# Altium integrated library Capacitors - Ceramic - 0201.IntLib: 1723 symbols (part 3 of 38)
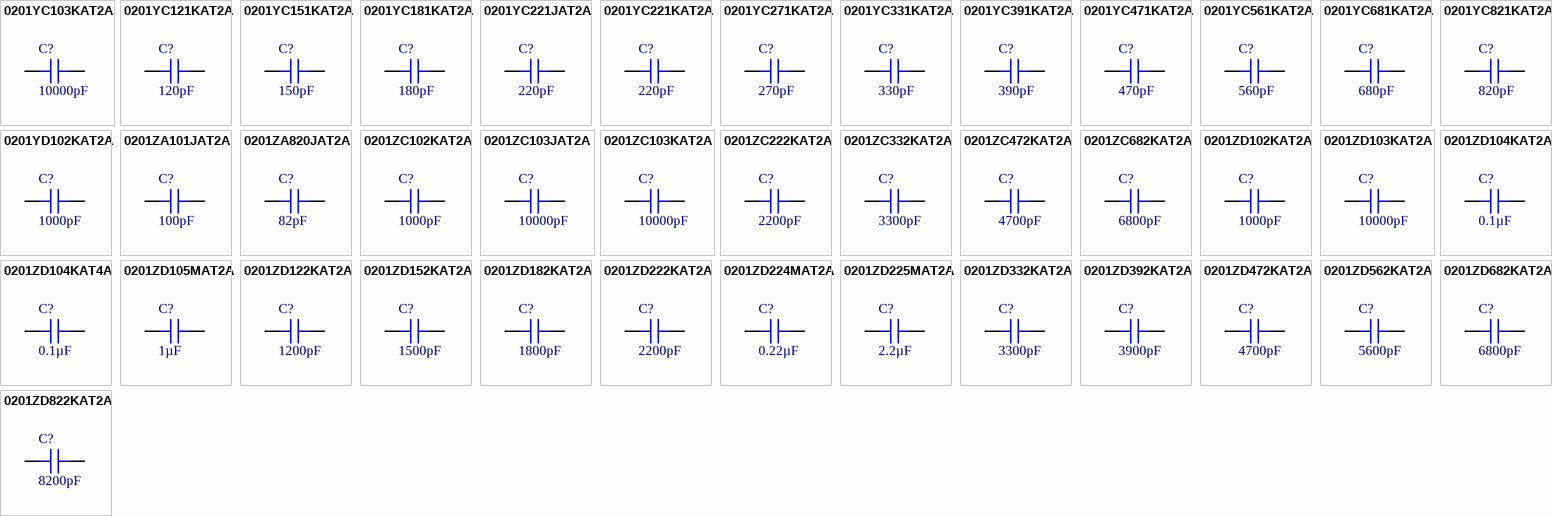
[diagram p45: symbols 0201YC103KAT2A to 0201ZD822KAT2A]

## 0201YD102KAT2A
designator C?, comment 1000pF
CAP CER 1000PF 16V X5R 0201; Part Number: 0201YD102KAT2A; Manufacturer: AVX Corporation; Tolerance: ±10%; Value: 1000pF; Applications: General Purpose; Capacitance: 1000pF; ComponentLink1Description: Datasheet; ComponentLink1URL: http://datasheets.avx.com/cx5r.pdf; ComponentLink2Description: DigiKey Link; ComponentLink2URL: http://digikey.com/product-detail/en/avx-corporation/0201YD102KAT2A/478-12599-1-ND/9949139; Device Package: 0201 (0603 Metric); LastUpdated: 9/2/2020 12:59:42 AM; Lifecycle Status: Active; Minimum Order: 1; Mounting Type: Surface Mount, MLCC; Operating Temperature: -55°C ~ 85°C; Package / Case: 0201 (0603 Metric); Packaging: TapeAndReel; PartId: 439; Part Status: Active; Price: 0.09; Series: -; Size / Dimension: 0.024" L x 0.012" W (0.60mm x 0.30mm); Supplier 1: DigiKey; Supplier Part Number 1: 478-12599-1-ND; Temperature Coefficient: X5R; Thickness (Max): 0.013" (0.33mm); Voltage - Rated: 16V
footprint CAP 0201_0603
pins: 1, 2

## 0201ZA101JAT2A
designator C?, comment 100pF
CAP CER 100PF 10V C0G/NP0 0201; Part Number: 0201ZA101JAT2A; Manufacturer: AVX Corporation; Temperature Coefficient: C0G, NP0; Tolerance: ±5%; Value: 100pF; Applications: General Purpose; Capacitance: 100pF; ComponentLink1Description: Datasheet; ComponentLink1URL: http://datasheets.avx.com/C0GNP0-Dielectric.pdf; ComponentLink2Description: DigiKey Link; ComponentLink2URL: http://digikey.com/product-detail/en/avx-corporation/0201ZA101JAT2A/478-1026-1-ND/564058; Device Package: 0201 (0603 Metric); LastUpdated: 9/2/2020 1:00:11 AM; Lifecycle Status: Active; Minimum Order: 1; Mounting Type: Surface Mount, MLCC; Operating Temperature: -55°C ~ 125°C; Package / Case: 0201 (0603 Metric); Packaging: TapeAndReel; PartId: 98; Part Status: Active; Price: 0.09; Series: -; Size / Dimension: 0.024" L x 0.012" W (0.60mm x 0.30mm); Supplier 1: DigiKey; Supplier Part Number 1: 478-1026-1-ND; Thickness (Max): 0.013" (0.33mm); Voltage - Rated: 10V
footprint CAP 0201_0603
pins: 1, 2

## 0201ZA820JAT2A
designator C?, comment 82pF
CAP CER 82PF 10V C0G/NP0 0201; Part Number: 0201ZA820JAT2A; Manufacturer: AVX Corporation; Temperature Coefficient: C0G, NP0; Tolerance: ±5%; Value: 82pF; Applications: General Purpose; Capacitance: 82pF; ComponentLink1Description: Datasheet; ComponentLink1URL: http://datasheets.avx.com/C0GNP0-Dielectric.pdf; ComponentLink2Description: DigiKey Link; ComponentLink2URL: http://digikey.com/product-detail/en/avx-corporation/0201ZA820JAT2A/478-1025-1-ND/564057; Device Package: 0201 (0603 Metric); LastUpdated: 9/2/2020 12:59:42 AM; Lifecycle Status: Active; Minimum Order: 1; Mounting Type: Surface Mount, MLCC; Operating Temperature: -55°C ~ 125°C; Package / Case: 0201 (0603 Metric); Packaging: TapeAndReel; PartId: 436; Part Status: Active; Price: 0.04; Series: -; Size / Dimension: 0.024" L x 0.012" W (0.60mm x 0.30mm); Supplier 1: DigiKey; Supplier Part Number 1: 478-1025-1-ND; Thickness (Max): 0.013" (0.33mm); Voltage - Rated: 10V
footprint CAP 0201_0603
pins: 1, 2

## 0201ZC102KAT2A
designator C?, comment 1000pF
CAP CER 1000PF 10V X7R 0201; Part Number: 0201ZC102KAT2A; Manufacturer: AVX Corporation; Tolerance: ±10%; Value: 1000pF; Applications: General Purpose; Capacitance: 1000pF; ComponentLink1Description: Datasheet; ComponentLink1URL: http://datasheets.avx.com/X7RDielectric.pdf; ComponentLink2Description: DigiKey Link; ComponentLink2URL: http://digikey.com/product-detail/en/avx-corporation/0201ZC102KAT2A/478-12600-1-ND/9949140; Device Package: 0201 (0603 Metric); LastUpdated: 9/2/2020 12:58:29 AM; Lifecycle Status: Active; Minimum Order: 1; Mounting Type: Surface Mount, MLCC; Operating Temperature: -55°C ~ 125°C; Package / Case: 0201 (0603 Metric); Packaging: TapeAndReel; PartId: 1291; Part Status: Active; Price: 0.08; Series: -; Size / Dimension: 0.024" L x 0.012" W (0.60mm x 0.30mm); Supplier 1: DigiKey; Supplier Part Number 1: 478-12600-1-ND; Temperature Coefficient: X7R; Thickness (Max): 0.013" (0.33mm); Voltage - Rated: 10V
footprint CAP 0201_0603
pins: 1, 2

## 0201ZC103JAT2A
designator C?, comment 10000pF
CAP CER 10000PF 10V X7R 0201; Part Number: 0201ZC103JAT2A; Manufacturer: AVX Corporation; Tolerance: ±5%; Value: 10000pF; Applications: General Purpose; Capacitance: 10000pF; ComponentLink1Description: Datasheet; ComponentLink1URL: http://datasheets.avx.com/X7RDielectric.pdf; ComponentLink2Description: DigiKey Link; ComponentLink2URL: http://digikey.com/product-detail/en/avx-corporation/0201ZC103JAT2A/478-10776-1-ND/7536320; Device Package: 0201 (0603 Metric); LastUpdated: 9/2/2020 12:59:12 AM; Lifecycle Status: Active; Minimum Order: 1; Mounting Type: Surface Mount, MLCC; Operating Temperature: -55°C ~ 125°C; Package / Case: 0201 (0603 Metric); Packaging: TapeAndReel; PartId: 786; Part Status: Active; Price: 0.01; Series: -; Size / Dimension: 0.024" L x 0.012" W (0.60mm x 0.30mm); Supplier 1: DigiKey; Supplier Part Number 1: 478-10776-1-ND; Temperature Coefficient: X7R; Thickness (Max): 0.013" (0.33mm); Voltage - Rated: 10V
footprint CAP 0201_0603
pins: 1, 2

## 0201ZC103KAT2A
designator C?, comment 10000pF
CAP CER 10000PF 10V X7R 0201; Part Number: 0201ZC103KAT2A; Manufacturer: AVX Corporation; Tolerance: ±10%; Value: 10000pF; Applications: General Purpose; Capacitance: 10000pF; ComponentLink1Description: Datasheet; ComponentLink1URL: http://datasheets.avx.com/X7RDielectric.pdf; ComponentLink2Description: DigiKey Link; ComponentLink2URL: http://digikey.com/product-detail/en/avx-corporation/0201ZC103KAT2A/478-10044-1-ND/6564267; Device Package: 0201 (0603 Metric); LastUpdated: 9/2/2020 12:58:12 AM; Lifecycle Status: Active; Minimum Order: 1; Mounting Type: Surface Mount, MLCC; Operating Temperature: -55°C ~ 125°C; Package / Case: 0201 (0603 Metric); Packaging: TapeAndReel; PartId: 1468; Part Status: Active; Price: 0.01; Series: -; Size / Dimension: 0.024" L x 0.012" W (0.60mm x 0.30mm); Supplier 1: DigiKey; Supplier Part Number 1: 478-10044-1-ND; Temperature Coefficient: X7R; Thickness (Max): 0.013" (0.33mm); Voltage - Rated: 10V
footprint CAP 0201_0603
pins: 1, 2

## 0201ZC222KAT2A
designator C?, comment 2200pF
CAP CER 2200PF 10V X7R 0201; Part Number: 0201ZC222KAT2A; Manufacturer: AVX Corporation; Tolerance: ±10%; Value: 2200pF; Applications: General Purpose; Capacitance: 2200pF; ComponentLink1Description: Datasheet; ComponentLink1URL: http://datasheets.avx.com/X7RDielectric.pdf; ComponentLink2Description: DigiKey Link; ComponentLink2URL: http://digikey.com/product-detail/en/avx-corporation/0201ZC222KAT2A/478-10777-1-ND/7536321; Device Package: 0201 (0603 Metric); LastUpdated: 9/2/2020 12:57:54 AM; Lifecycle Status: Active; Minimum Order: 1; Mounting Type: Surface Mount, MLCC; Operating Temperature: -55°C ~ 125°C; Package / Case: 0201 (0603 Metric); Packaging: TapeAndReel; PartId: 1672; Part Status: Active; Price: 0.01; Series: -; Size / Dimension: 0.024" L x 0.012" W (0.60mm x 0.30mm); Supplier 1: DigiKey; Supplier Part Number 1: 478-10777-1-ND; Temperature Coefficient: X7R; Thickness (Max): 0.013" (0.33mm); Voltage - Rated: 10V
footprint CAP 0201_0603
pins: 1, 2

## 0201ZC332KAT2A
designator C?, comment 3300pF
CAP CER 3300PF 10V X7R 0201; Part Number: 0201ZC332KAT2A; Manufacturer: AVX Corporation; Tolerance: ±10%; Value: 3300pF; Applications: General Purpose; Capacitance: 3300pF; ComponentLink1Description: Datasheet; ComponentLink1URL: http://datasheets.avx.com/X7RDielectric.pdf; ComponentLink2Description: DigiKey Link; ComponentLink2URL: http://digikey.com/product-detail/en/avx-corporation/0201ZC332KAT2A/478-12601-1-ND/9949141; Device Package: 0201 (0603 Metric); LastUpdated: 9/2/2020 12:59:41 AM; Lifecycle Status: Active; Minimum Order: 1; Mounting Type: Surface Mount, MLCC; Operating Temperature: -55°C ~ 125°C; Package / Case: 0201 (0603 Metric); Packaging: TapeAndReel; PartId: 440; Part Status: Active; Price: 0.09; Series: -; Size / Dimension: 0.024" L x 0.012" W (0.60mm x 0.30mm); Supplier 1: DigiKey; Supplier Part Number 1: 478-12601-1-ND; Temperature Coefficient: X7R; Thickness (Max): 0.013" (0.33mm); Voltage - Rated: 10V
footprint CAP 0201_0603
pins: 1, 2

## 0201ZC472KAT2A
designator C?, comment 4700pF
CAP CER 4700PF 10V X7R 0201; Part Number: 0201ZC472KAT2A; Manufacturer: AVX Corporation; Tolerance: ±10%; Value: 4700pF; Applications: General Purpose; Capacitance: 4700pF; ComponentLink1Description: Datasheet; ComponentLink1URL: http://datasheets.avx.com/X7RDielectric.pdf; ComponentLink2Description: DigiKey Link; ComponentLink2URL: http://digikey.com/product-detail/en/avx-corporation/0201ZC472KAT2A/478-10778-1-ND/7536322; Device Package: 0201 (0603 Metric); LastUpdated: 9/2/2020 12:58:12 AM; Lifecycle Status: Active; Minimum Order: 1; Mounting Type: Surface Mount, MLCC; Operating Temperature: -55°C ~ 125°C; Package / Case: 0201 (0603 Metric); Packaging: TapeAndReel; PartId: 1466; Part Status: Active; Price: 0.01; Series: -; Size / Dimension: 0.024" L x 0.012" W (0.60mm x 0.30mm); Supplier 1: DigiKey; Supplier Part Number 1: 478-10778-1-ND; Temperature Coefficient: X7R; Thickness (Max): 0.013" (0.33mm); Voltage - Rated: 10V
footprint CAP 0201_0603
pins: 1, 2

## 0201ZC682KAT2A
designator C?, comment 6800pF
CAP CER 6800PF 10V X7R 0201; Part Number: 0201ZC682KAT2A; Manufacturer: AVX Corporation; Tolerance: ±10%; Value: 6800pF; Applications: General Purpose; Capacitance: 6800pF; ComponentLink1Description: Datasheet; ComponentLink1URL: http://datasheets.avx.com/X7RDielectric.pdf; ComponentLink2Description: DigiKey Link; ComponentLink2URL: http://digikey.com/product-detail/en/avx-corporation/0201ZC682KAT2A/478-12602-1-ND/9949142; Device Package: 0201 (0603 Metric); LastUpdated: 9/2/2020 12:58:25 AM; Lifecycle Status: Active; Minimum Order: 1; Mounting Type: Surface Mount, MLCC; Operating Temperature: -55°C ~ 125°C; Package / Case: 0201 (0603 Metric); Packaging: TapeAndReel; PartId: 1330; Part Status: Active; Price: 0.01; Series: -; Size / Dimension: 0.024" L x 0.012" W (0.60mm x 0.30mm); Supplier 1: DigiKey; Supplier Part Number 1: 478-12602-1-ND; Temperature Coefficient: X7R; Thickness (Max): 0.013" (0.33mm); Voltage - Rated: 10V
footprint CAP 0201_0603
pins: 1, 2

## 0201ZD102KAT2A
designator C?, comment 1000pF
CAP CER 1000PF 10V X5R 0201; Part Number: 0201ZD102KAT2A; Manufacturer: AVX Corporation; Tolerance: ±10%; Value: 1000pF; Applications: General Purpose; Capacitance: 1000pF; ComponentLink1Description: Datasheet; ComponentLink1URL: http://datasheets.avx.com/cx5r.pdf; ComponentLink2Description: DigiKey Link; ComponentLink2URL: http://digikey.com/product-detail/en/avx-corporation/0201ZD102KAT2A/478-11734-1-ND/8573370; Device Package: 0201 (0603 Metric); LastUpdated: 9/2/2020 12:59:59 AM; Lifecycle Status: Active; Minimum Order: 1; Mounting Type: Surface Mount, MLCC; Operating Temperature: -55°C ~ 85°C; Package / Case: 0201 (0603 Metric); Packaging: TapeAndReel; PartId: 239; Part Status: Active; Price: 0.08; Series: -; Size / Dimension: 0.024" L x 0.012" W (0.60mm x 0.30mm); Supplier 1: DigiKey; Supplier Part Number 1: 478-11734-1-ND; Temperature Coefficient: X5R; Thickness (Max): 0.013" (0.33mm); Voltage - Rated: 10V
footprint CAP 0201_0603
pins: 1, 2

## 0201ZD103KAT2A
designator C?, comment 10000pF
CAP CER 10000PF 10V X5R 0201; Part Number: 0201ZD103KAT2A; Manufacturer: AVX Corporation; Tolerance: ±10%; Value: 10000pF; Applications: General Purpose; Capacitance: 10000pF; ComponentLink1Description: Datasheet; ComponentLink1URL: http://datasheets.avx.com/cx5r.pdf; ComponentLink2Description: DigiKey Link; ComponentLink2URL: http://digikey.com/product-detail/en/avx-corporation/0201ZD103KAT2A/478-1051-1-ND/564083; Device Package: 0201 (0603 Metric); LastUpdated: 9/2/2020 1:00:00 AM; Lifecycle Status: Active; Minimum Order: 1; Mounting Type: Surface Mount, MLCC; Operating Temperature: -55°C ~ 85°C; Package / Case: 0201 (0603 Metric); Packaging: TapeAndReel; PartId: 222; Part Status: Active; Price: 0.02; Series: -; Size / Dimension: 0.024" L x 0.012" W (0.60mm x 0.30mm); Supplier 1: DigiKey; Supplier Part Number 1: 478-1051-1-ND; Temperature Coefficient: X5R; Thickness (Max): 0.013" (0.33mm); Voltage - Rated: 10V
footprint CAP 0201_0603
pins: 1, 2

## 0201ZD104KAT2A
designator C?, comment 0.1µF
CAP CER 0.1UF 10V X5R 0201; Part Number: 0201ZD104KAT2A; Manufacturer: AVX Corporation; Tolerance: ±10%; Value: 0.1µF; Applications: General Purpose; Capacitance: 0.1µF; ComponentLink1Description: Datasheet; ComponentLink1URL: http://datasheets.avx.com/cx5r.pdf; ComponentLink2Description: DigiKey Link; ComponentLink2URL: http://digikey.com/product-detail/en/avx-corporation/0201ZD104KAT2A/478-10051-1-ND/6564274; Device Package: 0201 (0603 Metric); LastUpdated: 9/2/2020 12:59:12 AM; Lifecycle Status: Active; Minimum Order: 1; Mounting Type: Surface Mount, MLCC; Operating Temperature: -55°C ~ 85°C; Package / Case: 0201 (0603 Metric); Packaging: TapeAndReel; PartId: 778; Part Status: Active; Price: 0.01; Series: -; Size / Dimension: 0.024" L x 0.012" W (0.60mm x 0.30mm); Supplier 1: DigiKey; Supplier Part Number 1: 478-10051-1-ND; Temperature Coefficient: X5R; Thickness (Max): 0.013" (0.33mm); Voltage - Rated: 10V
footprint CAP 0201_0603
pins: 1, 2

## 0201ZD104KAT4A
designator C?, comment 0.1µF
CAP CER 0.1UF 10V X5R 0201; Part Number: 0201ZD104KAT4A; Manufacturer: AVX Corporation; Tolerance: ±10%; Value: 0.1µF; Applications: General Purpose; Capacitance: 0.1µF; ComponentLink1Description: Datasheet; ComponentLink1URL: http://datasheets.avx.com/cx5r.pdf; ComponentLink2Description: DigiKey Link; ComponentLink2URL: http://digikey.com/product-detail/en/avx-corporation/0201ZD104KAT4A/478-12446-1-ND/9749298; Device Package: 0201 (0603 Metric); LastUpdated: 9/2/2020 12:59:51 AM; Lifecycle Status: Active; Minimum Order: 1; Mounting Type: Surface Mount, MLCC; Operating Temperature: -55°C ~ 85°C; Package / Case: 0201 (0603 Metric); Packaging: TapeAndReel; PartId: 326; Part Status: Active; Price: 0.01; Series: -; Size / Dimension: 0.024" L x 0.012" W (0.60mm x 0.30mm); Supplier 1: DigiKey; Supplier Part Number 1: 478-12446-1-ND; Temperature Coefficient: X5R; Thickness (Max): 0.013" (0.33mm); Voltage - Rated: 10V
footprint CAP 0201_0603
pins: 1, 2

## 0201ZD105MAT2A
designator C?, comment 1µF
CAP CER 1UF 10V X5R 0201; Part Number: 0201ZD105MAT2A; Manufacturer: AVX Corporation; Tolerance: ±20%; Value: 1µF; Applications: General Purpose; Capacitance: 1µF; ComponentLink1Description: Datasheet; ComponentLink1URL: http://datasheets.avx.com/cx5r.pdf; ComponentLink2Description: DigiKey Link; ComponentLink2URL: http://digikey.com/product-detail/en/avx-corporation/0201ZD105MAT2A/478-10779-1-ND/7536323; Device Package: 0201 (0603 Metric); LastUpdated: 9/2/2020 12:57:55 AM; Lifecycle Status: Active; Minimum Order: 1; Mounting Type: Surface Mount, MLCC; Operating Temperature: -55°C ~ 85°C; Package / Case: 0201 (0603 Metric); Packaging: TapeAndReel; PartId: 1666; Part Status: Active; Price: 0.04; Series: -; Size / Dimension: 0.024" L x 0.012" W (0.60mm x 0.30mm); Supplier 1: DigiKey; Supplier Part Number 1: 478-10779-1-ND; Temperature Coefficient: X5R; Thickness (Max): 0.016" (0.40mm); Voltage - Rated: 10V
footprint CAP 0201_0603
pins: 1, 2

## 0201ZD122KAT2A
designator C?, comment 1200pF
CAP CER 1200PF 10V X5R 0201; Part Number: 0201ZD122KAT2A; Manufacturer: AVX Corporation; Tolerance: ±10%; Value: 1200pF; Applications: General Purpose; Capacitance: 1200pF; ComponentLink1Description: Datasheet; ComponentLink1URL: http://datasheets.avx.com/cx5r.pdf; ComponentLink2Description: DigiKey Link; ComponentLink2URL: http://digikey.com/product-detail/en/avx-corporation/0201ZD122KAT2A/478-1040-1-ND/564072; Device Package: 0201 (0603 Metric); LastUpdated: 9/2/2020 1:00:11 AM; Lifecycle Status: Active; Minimum Order: 1; Mounting Type: Surface Mount, MLCC; Operating Temperature: -55°C ~ 85°C; Package / Case: 0201 (0603 Metric); Packaging: TapeAndReel; PartId: 99; Part Status: Active; Price: 0.09; Series: -; Size / Dimension: 0.024" L x 0.012" W (0.60mm x 0.30mm); Supplier 1: DigiKey; Supplier Part Number 1: 478-1040-1-ND; Temperature Coefficient: X5R; Thickness (Max): 0.013" (0.33mm); Voltage - Rated: 10V
footprint CAP 0201_0603
pins: 1, 2

## 0201ZD152KAT2A
designator C?, comment 1500pF
CAP CER 1500PF 10V X5R 0201; Part Number: 0201ZD152KAT2A; Manufacturer: AVX Corporation; Tolerance: ±10%; Value: 1500pF; Applications: General Purpose; Capacitance: 1500pF; ComponentLink1Description: Datasheet; ComponentLink1URL: http://datasheets.avx.com/cx5r.pdf; ComponentLink2Description: DigiKey Link; ComponentLink2URL: http://digikey.com/product-detail/en/avx-corporation/0201ZD152KAT2A/478-1041-1-ND/564073; Device Package: 0201 (0603 Metric); LastUpdated: 9/2/2020 12:59:07 AM; Lifecycle Status: Active; Minimum Order: 1; Mounting Type: Surface Mount, MLCC; Operating Temperature: -55°C ~ 85°C; Package / Case: 0201 (0603 Metric); Packaging: TapeAndReel; PartId: 846; Part Status: Active; Price: 0.08; Series: -; Size / Dimension: 0.024" L x 0.012" W (0.60mm x 0.30mm); Supplier 1: DigiKey; Supplier Part Number 1: 478-1041-1-ND; Temperature Coefficient: X5R; Thickness (Max): 0.013" (0.33mm); Voltage - Rated: 10V
footprint CAP 0201_0603
pins: 1, 2

## 0201ZD182KAT2A
designator C?, comment 1800pF
CAP CER 1800PF 10V X5R 0201; Part Number: 0201ZD182KAT2A; Manufacturer: AVX Corporation; Tolerance: ±10%; Value: 1800pF; Applications: General Purpose; Capacitance: 1800pF; ComponentLink1Description: Datasheet; ComponentLink1URL: http://datasheets.avx.com/cx5r.pdf; ComponentLink2Description: DigiKey Link; ComponentLink2URL: http://digikey.com/product-detail/en/avx-corporation/0201ZD182KAT2A/478-1042-1-ND/564074; Device Package: 0201 (0603 Metric); LastUpdated: 9/2/2020 12:58:26 AM; Lifecycle Status: Active; Minimum Order: 1; Mounting Type: Surface Mount, MLCC; Operating Temperature: -55°C ~ 85°C; Package / Case: 0201 (0603 Metric); Packaging: TapeAndReel; PartId: 1319; Part Status: Active; Price: 0.09; Series: -; Size / Dimension: 0.024" L x 0.012" W (0.60mm x 0.30mm); Supplier 1: DigiKey; Supplier Part Number 1: 478-1042-1-ND; Temperature Coefficient: X5R; Thickness (Max): 0.013" (0.33mm); Voltage - Rated: 10V
footprint CAP 0201_0603
pins: 1, 2

## 0201ZD222KAT2A
designator C?, comment 2200pF
CAP CER 2200PF 10V X5R 0201; Part Number: 0201ZD222KAT2A; Manufacturer: AVX Corporation; Tolerance: ±10%; Value: 2200pF; Applications: General Purpose; Capacitance: 2200pF; ComponentLink1Description: Datasheet; ComponentLink1URL: http://datasheets.avx.com/cx5r.pdf; ComponentLink2Description: DigiKey Link; ComponentLink2URL: http://digikey.com/product-detail/en/avx-corporation/0201ZD222KAT2A/478-1043-1-ND/564075; Device Package: 0201 (0603 Metric); LastUpdated: 9/2/2020 12:58:43 AM; Lifecycle Status: Active; Minimum Order: 1; Mounting Type: Surface Mount, MLCC; Operating Temperature: -55°C ~ 85°C; Package / Case: 0201 (0603 Metric); Packaging: TapeAndReel; PartId: 1128; Part Status: Active; Price: 0.09; Series: -; Size / Dimension: 0.024" L x 0.012" W (0.60mm x 0.30mm); Supplier 1: DigiKey; Supplier Part Number 1: 478-1043-1-ND; Temperature Coefficient: X5R; Thickness (Max): 0.013" (0.33mm); Voltage - Rated: 10V
footprint CAP 0201_0603
pins: 1, 2

## 0201ZD224MAT2A
designator C?, comment 0.22µF
CAP CER 0.22UF 10V X5R 0201; Part Number: 0201ZD224MAT2A; Manufacturer: AVX Corporation; Tolerance: ±20%; Value: 0.22µF; Applications: General Purpose; Capacitance: 0.22µF; ComponentLink1Description: Datasheet; ComponentLink1URL: http://datasheets.avx.com/cx5r.pdf; ComponentLink2Description: DigiKey Link; ComponentLink2URL: http://digikey.com/product-detail/en/avx-corporation/0201ZD224MAT2A/478-12502-1-ND/9749555; Device Package: 0201 (0603 Metric); LastUpdated: 9/2/2020 12:58:50 AM; Lifecycle Status: Active; Minimum Order: 1; Mounting Type: Surface Mount, MLCC; Operating Temperature: -55°C ~ 85°C; Package / Case: 0201 (0603 Metric); Packaging: CutTape; PartId: 1046; Part Status: Active; Price: 0.59; Series: -; Size / Dimension: 0.024" L x 0.012" W (0.60mm x 0.30mm); Supplier 1: DigiKey; Supplier Part Number 1: 478-12502-1-ND; Temperature Coefficient: X5R; Thickness (Max): 0.013" (0.33mm); Voltage - Rated: 10V
footprint CAP 0201_0603
pins: 1, 2

## 0201ZD225MAT2A
designator C?, comment 2.2µF
CAP CER 2.2UF 10V X5R 0201; Part Number: 0201ZD225MAT2A; Manufacturer: AVX Corporation; Tolerance: ±20%; Value: 2.2µF; Applications: General Purpose; Capacitance: 2.2µF; ComponentLink1Description: Datasheet; ComponentLink1URL: http://datasheets.avx.com/cx5r.pdf; ComponentLink2Description: DigiKey Link; ComponentLink2URL: http://digikey.com/product-detail/en/avx-corporation/0201ZD225MAT2A/478-11427-1-ND/8019282; Device Package: 0201 (0603 Metric); LastUpdated: 9/2/2020 12:58:38 AM; Lifecycle Status: Active; Minimum Order: 1; Mounting Type: Surface Mount, MLCC; Operating Temperature: -55°C ~ 85°C; Package / Case: 0201 (0603 Metric); Packaging: TapeAndReel; PartId: 1180; Part Status: Active; Price: 0.11; Series: -; Size / Dimension: 0.024" L x 0.012" W (0.60mm x 0.30mm); Supplier 1: DigiKey; Supplier Part Number 1: 478-11427-1-ND; Temperature Coefficient: X5R; Thickness (Max): 0.016" (0.40mm); Voltage - Rated: 10V
footprint CAP 0201_0603
pins: 1, 2

## 0201ZD332KAT2A
designator C?, comment 3300pF
CAP CER 3300PF 10V X5R 0201; Part Number: 0201ZD332KAT2A; Manufacturer: AVX Corporation; Tolerance: ±10%; Value: 3300pF; Applications: General Purpose; Capacitance: 3300pF; ComponentLink1Description: Datasheet; ComponentLink1URL: http://datasheets.avx.com/cx5r.pdf; ComponentLink2Description: DigiKey Link; ComponentLink2URL: http://digikey.com/product-detail/en/avx-corporation/0201ZD332KAT2A/478-1045-1-ND/564077; Device Package: 0201 (0603 Metric); LastUpdated: 9/2/2020 1:00:08 AM; Lifecycle Status: Active; Minimum Order: 1; Mounting Type: Surface Mount, MLCC; Operating Temperature: -55°C ~ 85°C; Package / Case: 0201 (0603 Metric); Packaging: TapeAndReel; PartId: 138; Part Status: Active; Price: 0.05; Series: -; Size / Dimension: 0.024" L x 0.012" W (0.60mm x 0.30mm); Supplier 1: DigiKey; Supplier Part Number 1: 478-1045-1-ND; Temperature Coefficient: X5R; Thickness (Max): 0.013" (0.33mm); Voltage - Rated: 10V
footprint CAP 0201_0603
pins: 1, 2

## 0201ZD392KAT2A
designator C?, comment 3900pF
CAP CER 3900PF 10V X5R 0201; Part Number: 0201ZD392KAT2A; Manufacturer: AVX Corporation; Tolerance: ±10%; Value: 3900pF; Applications: General Purpose; Capacitance: 3900pF; ComponentLink1Description: Datasheet; ComponentLink1URL: http://datasheets.avx.com/cx5r.pdf; ComponentLink2Description: DigiKey Link; ComponentLink2URL: http://digikey.com/product-detail/en/avx-corporation/0201ZD392KAT2A/478-1046-1-ND/564078; Device Package: 0201 (0603 Metric); LastUpdated: 9/2/2020 1:00:07 AM; Lifecycle Status: Active; Minimum Order: 1; Mounting Type: Surface Mount, MLCC; Operating Temperature: -55°C ~ 85°C; Package / Case: 0201 (0603 Metric); Packaging: TapeAndReel; PartId: 144; Part Status: Active; Price: 0.08; Series: -; Size / Dimension: 0.024" L x 0.012" W (0.60mm x 0.30mm); Supplier 1: DigiKey; Supplier Part Number 1: 478-1046-1-ND; Temperature Coefficient: X5R; Thickness (Max): 0.013" (0.33mm); Voltage - Rated: 10V
footprint CAP 0201_0603
pins: 1, 2

## 0201ZD472KAT2A
designator C?, comment 4700pF
CAP CER 4700PF 10V X5R 0201; Part Number: 0201ZD472KAT2A; Manufacturer: AVX Corporation; Tolerance: ±10%; Value: 4700pF; Applications: General Purpose; Capacitance: 4700pF; ComponentLink1Description: Datasheet; ComponentLink1URL: http://datasheets.avx.com/cx5r.pdf; ComponentLink2Description: DigiKey Link; ComponentLink2URL: http://digikey.com/product-detail/en/avx-corporation/0201ZD472KAT2A/478-1047-1-ND/564079; Device Package: 0201 (0603 Metric); LastUpdated: 9/2/2020 12:58:24 AM; Lifecycle Status: Active; Minimum Order: 1; Mounting Type: Surface Mount, MLCC; Operating Temperature: -55°C ~ 85°C; Package / Case: 0201 (0603 Metric); Packaging: CutTape; PartId: 1347; Part Status: Active; Price: 0.28; Series: -; Size / Dimension: 0.024" L x 0.012" W (0.60mm x 0.30mm); Supplier 1: DigiKey; Supplier Part Number 1: 478-1047-1-ND; Temperature Coefficient: X5R; Thickness (Max): 0.013" (0.33mm); Voltage - Rated: 10V
footprint CAP 0201_0603
pins: 1, 2

## 0201ZD562KAT2A
designator C?, comment 5600pF
CAP CER 5600PF 10V X5R 0201; Part Number: 0201ZD562KAT2A; Manufacturer: AVX Corporation; Tolerance: ±10%; Value: 5600pF; Applications: General Purpose; Capacitance: 5600pF; ComponentLink1Description: Datasheet; ComponentLink1URL: http://datasheets.avx.com/cx5r.pdf; ComponentLink2Description: DigiKey Link; ComponentLink2URL: http://digikey.com/product-detail/en/avx-corporation/0201ZD562KAT2A/478-1048-1-ND/564080; Device Package: 0201 (0603 Metric); LastUpdated: 9/2/2020 1:00:07 AM; Lifecycle Status: Active; Minimum Order: 1; Mounting Type: Surface Mount, MLCC; Operating Temperature: -55°C ~ 85°C; Package / Case: 0201 (0603 Metric); Packaging: TapeAndReel; PartId: 142; Part Status: Active; Price: 0.09; Series: -; Size / Dimension: 0.024" L x 0.012" W (0.60mm x 0.30mm); Supplier 1: DigiKey; Supplier Part Number 1: 478-1048-1-ND; Temperature Coefficient: X5R; Thickness (Max): 0.013" (0.33mm); Voltage - Rated: 10V
footprint CAP 0201_0603
pins: 1, 2

## 0201ZD682KAT2A
designator C?, comment 6800pF
CAP CER 6800PF 10V X5R 0201; Part Number: 0201ZD682KAT2A; Manufacturer: AVX Corporation; Tolerance: ±10%; Value: 6800pF; Applications: General Purpose; Capacitance: 6800pF; ComponentLink1Description: Datasheet; ComponentLink1URL: http://datasheets.avx.com/cx5r.pdf; ComponentLink2Description: DigiKey Link; ComponentLink2URL: http://digikey.com/product-detail/en/avx-corporation/0201ZD682KAT2A/478-1049-1-ND/564081; Device Package: 0201 (0603 Metric); LastUpdated: 9/2/2020 12:59:44 AM; Lifecycle Status: Active; Minimum Order: 1; Mounting Type: Surface Mount, MLCC; Operating Temperature: -55°C ~ 85°C; Package / Case: 0201 (0603 Metric); Packaging: TapeAndReel; PartId: 416; Part Status: Active; Price: 0.04; Series: -; Size / Dimension: 0.024" L x 0.012" W (0.60mm x 0.30mm); Supplier 1: DigiKey; Supplier Part Number 1: 478-1049-1-ND; Temperature Coefficient: X5R; Thickness (Max): 0.013" (0.33mm); Voltage - Rated: 10V
footprint CAP 0201_0603
pins: 1, 2

## 0201ZD822KAT2A
designator C?, comment 8200pF
CAP CER 8200PF 10V X5R 0201; Part Number: 0201ZD822KAT2A; Manufacturer: AVX Corporation; Tolerance: ±10%; Value: 8200pF; Applications: General Purpose; Capacitance: 8200pF; ComponentLink1Description: Datasheet; ComponentLink1URL: http://datasheets.avx.com/cx5r.pdf; ComponentLink2Description: DigiKey Link; ComponentLink2URL: http://digikey.com/product-detail/en/avx-corporation/0201ZD822KAT2A/478-1050-1-ND/564082; Device Package: 0201 (0603 Metric); LastUpdated: 9/2/2020 12:58:39 AM; Lifecycle Status: Active; Minimum Order: 1; Mounting Type: Surface Mount, MLCC; Operating Temperature: -55°C ~ 85°C; Package / Case: 0201 (0603 Metric); Packaging: TapeAndReel; PartId: 1179; Part Status: Active; Price: 0.10; Series: -; Size / Dimension: 0.024" L x 0.012" W (0.60mm x 0.30mm); Supplier 1: DigiKey; Supplier Part Number 1: 478-1050-1-ND; Temperature Coefficient: X5R; Thickness (Max): 0.013" (0.33mm); Voltage - Rated: 10V
footprint CAP 0201_0603
pins: 1, 2

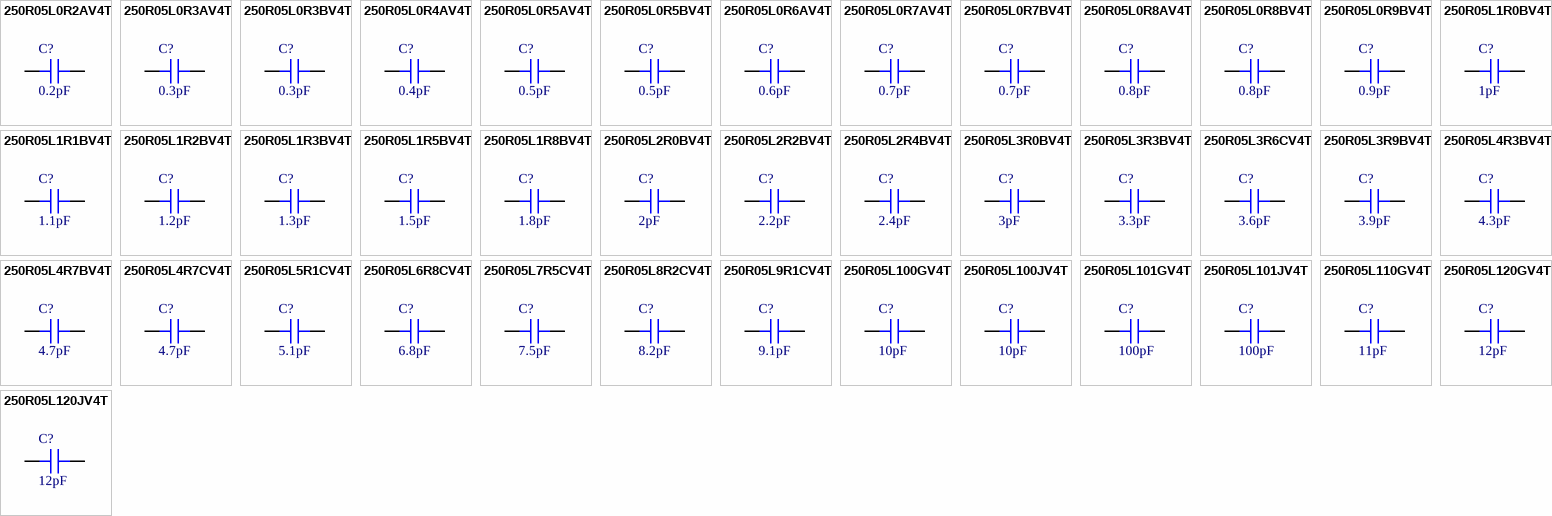
[diagram p3: symbols 250R05L0R2AV4T to 250R05L120JV4T]

## 250R05L0R2AV4T
designator C?, comment 0.2pF
CAP CER 0.2PF 25V C0G/NP0 0201; Part Number: 250R05L0R2AV4T; Manufacturer: Johanson Technology Inc.; Temperature Coefficient: C0G, NP0; Tolerance: ±0.05pF; Value: 0.2pF; Applications: RF, Microwave, High Frequency; Capacitance: 0.2pF; ComponentLink1Description: Datasheet; ComponentLink1URL: https://www.johansontechnology.com/downloads/catalog/johanson-technology-multi-layer-high-q-capacitors.pdf; ComponentLink2Description: DigiKey Link; ComponentLink2URL: http://digikey.com/product-detail/en/johanson-technology-inc/250R05L0R2AV4T/712-1173-1-ND/1786635; Device Package: 0201 (0603 Metric); Features: High Q, Low Loss; LastUpdated: 9/2/2020 12:59:38 AM; Lifecycle Status: Active; Minimum Order: 1; Mounting Type: Surface Mount, MLCC; Operating Temperature: -55°C ~ 125°C; Package / Case: 0201 (0603 Metric); Packaging: TapeAndReel; PartId: 479; Part Status: Active; Price: 0.02; Series: L; Size / Dimension: 0.024" L x 0.012" W (0.60mm x 0.30mm); Supplier 1: DigiKey; Supplier Part Number 1: 712-1173-1-ND; Thickness (Max): 0.013" (0.33mm); Voltage - Rated: 25V
footprint CAP 0201_0603
pins: 1, 2

## 250R05L0R3AV4T
designator C?, comment 0.3pF
CAP CER 0.3PF 25V C0G/NP0 0201; Part Number: 250R05L0R3AV4T; Manufacturer: Johanson Technology Inc.; Temperature Coefficient: C0G, NP0; Tolerance: ±0.05pF; Value: 0.3pF; Applications: RF, Microwave, High Frequency; Capacitance: 0.3pF; ComponentLink1Description: Datasheet; ComponentLink1URL: https://www.johansontechnology.com/downloads/catalog/johanson-technology-multi-layer-high-q-capacitors.pdf; ComponentLink2Description: DigiKey Link; ComponentLink2URL: http://digikey.com/product-detail/en/johanson-technology-inc/250R05L0R3AV4T/712-1174-1-ND/1786636; Device Package: 0201 (0603 Metric); Features: High Q, Low Loss; LastUpdated: 9/2/2020 12:58:43 AM; Lifecycle Status: Active; Minimum Order: 1; Mounting Type: Surface Mount, MLCC; Operating Temperature: -55°C ~ 125°C; Package / Case: 0201 (0603 Metric); Packaging: TapeAndReel; PartId: 1125; Part Status: Active; Price: 0.02; Series: L; Size / Dimension: 0.024" L x 0.012" W (0.60mm x 0.30mm); Supplier 1: DigiKey; Supplier Part Number 1: 712-1174-1-ND; Thickness (Max): 0.013" (0.33mm); Voltage - Rated: 25V
footprint CAP 0201_0603
pins: 1, 2

## 250R05L0R3BV4T
designator C?, comment 0.3pF
CAP CER 0.3PF 25V C0G/NP0 0201; Part Number: 250R05L0R3BV4T; Manufacturer: Johanson Technology Inc.; Temperature Coefficient: C0G, NP0; Tolerance: ±0.1pF; Value: 0.3pF; Applications: RF, Microwave, High Frequency; Capacitance: 0.3pF; ComponentLink1Description: Datasheet; ComponentLink1URL: https://www.johansontechnology.com/downloads/catalog/johanson-technology-multi-layer-high-q-capacitors.pdf; ComponentLink2Description: DigiKey Link; ComponentLink2URL: http://digikey.com/product-detail/en/johanson-technology-inc/250R05L0R3BV4T/712-1466-1-ND/1916350; Device Package: 0201 (0603 Metric); Features: High Q, Low Loss; LastUpdated: 9/2/2020 12:58:15 AM; Lifecycle Status: Active; Minimum Order: 1; Mounting Type: Surface Mount, MLCC; Operating Temperature: -55°C ~ 125°C; Package / Case: 0201 (0603 Metric); Packaging: TapeAndReel; PartId: 1442; Part Status: Active; Price: 0.01; Series: L; Size / Dimension: 0.024" L x 0.012" W (0.60mm x 0.30mm); Supplier 1: DigiKey; Supplier Part Number 1: 712-1466-1-ND; Thickness (Max): 0.013" (0.33mm); Voltage - Rated: 25V
footprint CAP 0201_0603
pins: 1, 2

## 250R05L0R4AV4T
designator C?, comment 0.4pF
CAP CER 0.4PF 25V C0G/NP0 0201; Part Number: 250R05L0R4AV4T; Manufacturer: Johanson Technology Inc.; Temperature Coefficient: C0G, NP0; Tolerance: ±0.05pF; Value: 0.4pF; Applications: RF, Microwave, High Frequency; Capacitance: 0.4pF; ComponentLink1Description: Datasheet; ComponentLink1URL: https://www.johansontechnology.com/downloads/catalog/johanson-technology-multi-layer-high-q-capacitors.pdf; ComponentLink2Description: DigiKey Link; ComponentLink2URL: http://digikey.com/product-detail/en/johanson-technology-inc/250R05L0R4AV4T/712-1175-1-ND/1786637; Device Package: 0201 (0603 Metric); Features: High Q, Low Loss; LastUpdated: 9/2/2020 12:58:43 AM; Lifecycle Status: Active; Minimum Order: 1; Mounting Type: Surface Mount, MLCC; Operating Temperature: -55°C ~ 125°C; Package / Case: 0201 (0603 Metric); Packaging: TapeAndReel; PartId: 1126; Part Status: Active; Price: 0.02; Series: L; Size / Dimension: 0.024" L x 0.012" W (0.60mm x 0.30mm); Supplier 1: DigiKey; Supplier Part Number 1: 712-1175-1-ND; Thickness (Max): 0.013" (0.33mm); Voltage - Rated: 25V
footprint CAP 0201_0603
pins: 1, 2

## 250R05L0R5AV4T
designator C?, comment 0.5pF
CAP CER 0.5PF 25V C0G/NP0 0201; Part Number: 250R05L0R5AV4T; Manufacturer: Johanson Technology Inc.; Temperature Coefficient: C0G, NP0; Tolerance: ±0.05pF; Value: 0.5pF; Applications: RF, Microwave, High Frequency; Capacitance: 0.5pF; ComponentLink1Description: Datasheet; ComponentLink1URL: https://www.johansontechnology.com/downloads/catalog/johanson-technology-multi-layer-high-q-capacitors.pdf; ComponentLink2Description: DigiKey Link; ComponentLink2URL: http://digikey.com/product-detail/en/johanson-technology-inc/250R05L0R5AV4T/712-1176-1-ND/1786638; Device Package: 0201 (0603 Metric); Features: High Q, Low Loss; LastUpdated: 9/2/2020 1:00:00 AM; Lifecycle Status: Active; Minimum Order: 1; Mounting Type: Surface Mount, MLCC; Operating Temperature: -55°C ~ 125°C; Package / Case: 0201 (0603 Metric); Packaging: TapeAndReel; PartId: 220; Part Status: Active; Price: 0.02; Series: L; Size / Dimension: 0.024" L x 0.012" W (0.60mm x 0.30mm); Supplier 1: DigiKey; Supplier Part Number 1: 712-1176-1-ND; Thickness (Max): 0.013" (0.33mm); Voltage - Rated: 25V
footprint CAP 0201_0603
pins: 1, 2

## 250R05L0R5BV4T
designator C?, comment 0.5pF
CAP CER 0.5PF 25V C0G/NP0 0201; Part Number: 250R05L0R5BV4T; Manufacturer: Johanson Technology Inc.; Temperature Coefficient: C0G, NP0; Tolerance: ±0.1pF; Value: 0.5pF; Applications: RF, Microwave, High Frequency; Capacitance: 0.5pF; ComponentLink1Description: Datasheet; ComponentLink1URL: https://www.johansontechnology.com/downloads/catalog/johanson-technology-multi-layer-high-q-capacitors.pdf; ComponentLink2Description: DigiKey Link; ComponentLink2URL: http://digikey.com/product-detail/en/johanson-technology-inc/250R05L0R5BV4T/712-1467-1-ND/1916352; Device Package: 0201 (0603 Metric); Features: High Q, Low Loss; LastUpdated: 9/2/2020 12:59:59 AM; Lifecycle Status: Active; Minimum Order: 1; Mounting Type: Surface Mount, MLCC; Operating Temperature: -55°C ~ 125°C; Package / Case: 0201 (0603 Metric); Packaging: TapeAndReel; PartId: 232; Part Status: Active; Price: 0.01; Series: L; Size / Dimension: 0.024" L x 0.012" W (0.60mm x 0.30mm); Supplier 1: DigiKey; Supplier Part Number 1: 712-1467-1-ND; Thickness (Max): 0.013" (0.33mm); Voltage - Rated: 25V
footprint CAP 0201_0603
pins: 1, 2

## 250R05L0R6AV4T
designator C?, comment 0.6pF
CAP CER 0.6PF 25V C0G/NP0 0201; Part Number: 250R05L0R6AV4T; Manufacturer: Johanson Technology Inc.; Temperature Coefficient: C0G, NP0; Tolerance: ±0.05pF; Value: 0.6pF; Applications: RF, Microwave, High Frequency; Capacitance: 0.6pF; ComponentLink1Description: Datasheet; ComponentLink1URL: https://www.johansontechnology.com/downloads/catalog/johanson-technology-multi-layer-high-q-capacitors.pdf; ComponentLink2Description: DigiKey Link; ComponentLink2URL: http://digikey.com/product-detail/en/johanson-technology-inc/250R05L0R6AV4T/712-1177-1-ND/1786639; Device Package: 0201 (0603 Metric); Features: High Q, Low Loss; LastUpdated: 9/2/2020 1:00:15 AM; Lifecycle Status: Active; Minimum Order: 1; Mounting Type: Surface Mount, MLCC; Operating Temperature: -55°C ~ 125°C; Package / Case: 0201 (0603 Metric); Packaging: TapeAndReel; PartId: 51; Part Status: Active; Price: 0.04; Series: L; Size / Dimension: 0.024" L x 0.012" W (0.60mm x 0.30mm); Supplier 1: DigiKey; Supplier Part Number 1: 712-1177-1-ND; Thickness (Max): 0.013" (0.33mm); Voltage - Rated: 25V
footprint CAP 0201_0603
pins: 1, 2

## 250R05L0R7AV4T
designator C?, comment 0.7pF
CAP CER 0.7PF 25V C0G/NP0 0201; Part Number: 250R05L0R7AV4T; Manufacturer: Johanson Technology Inc.; Temperature Coefficient: C0G, NP0; Tolerance: ±0.05pF; Value: 0.7pF; Applications: RF, Microwave, High Frequency; Capacitance: 0.7pF; ComponentLink1Description: Datasheet; ComponentLink1URL: https://www.johansontechnology.com/downloads/catalog/johanson-technology-multi-layer-high-q-capacitors.pdf; ComponentLink2Description: DigiKey Link; ComponentLink2URL: http://digikey.com/product-detail/en/johanson-technology-inc/250R05L0R7AV4T/712-1178-1-ND/1786640; Device Package: 0201 (0603 Metric); Features: High Q, Low Loss; LastUpdated: 9/2/2020 12:57:58 AM; Lifecycle Status: Active; Minimum Order: 1; Mounting Type: Surface Mount, MLCC; Operating Temperature: -55°C ~ 125°C; Package / Case: 0201 (0603 Metric); Packaging: TapeAndReel; PartId: 1630; Part Status: Active; Price: 0.04; Series: L; Size / Dimension: 0.024" L x 0.012" W (0.60mm x 0.30mm); Supplier 1: DigiKey; Supplier Part Number 1: 712-1178-1-ND; Thickness (Max): 0.013" (0.33mm); Voltage - Rated: 25V
footprint CAP 0201_0603
pins: 1, 2

## 250R05L0R7BV4T
designator C?, comment 0.7pF
CAP CER 0.7PF 25V C0G/NP0 0201; Part Number: 250R05L0R7BV4T; Manufacturer: Johanson Technology Inc.; Temperature Coefficient: C0G, NP0; Tolerance: ±0.1pF; Value: 0.7pF; Applications: RF, Microwave, High Frequency; Capacitance: 0.7pF; ComponentLink1Description: Datasheet; ComponentLink1URL: https://www.johansontechnology.com/downloads/catalog/johanson-technology-multi-layer-high-q-capacitors.pdf; ComponentLink2Description: DigiKey Link; ComponentLink2URL: http://digikey.com/product-detail/en/johanson-technology-inc/250R05L0R7BV4T/712-1468-1-ND/1916354; Device Package: 0201 (0603 Metric); Features: High Q, Low Loss; LastUpdated: 9/2/2020 12:58:01 AM; Lifecycle Status: Active; Minimum Order: 1; Mounting Type: Surface Mount, MLCC; Operating Temperature: -55°C ~ 125°C; Package / Case: 0201 (0603 Metric); Packaging: TapeAndReel; PartId: 1587; Part Status: Active; Price: 0.02; Series: L; Size / Dimension: 0.024" L x 0.012" W (0.60mm x 0.30mm); Supplier 1: DigiKey; Supplier Part Number 1: 712-1468-1-ND; Thickness (Max): 0.013" (0.33mm); Voltage - Rated: 25V
footprint CAP 0201_0603
pins: 1, 2

## 250R05L0R8AV4T
designator C?, comment 0.8pF
CAP CER 0.8PF 25V NP0 0201; Part Number: 250R05L0R8AV4T; Manufacturer: Johanson Technology Inc.; Temperature Coefficient: C0G, NP0; Tolerance: ±0.05pF; Value: 0.8pF; Applications: RF, Microwave, High Frequency; Capacitance: 0.8pF; ComponentLink1Description: Datasheet; ComponentLink1URL: https://www.johansontechnology.com/downloads/catalog/johanson-technology-multi-layer-high-q-capacitors.pdf; ComponentLink2Description: DigiKey Link; ComponentLink2URL: http://digikey.com/product-detail/en/johanson-technology-inc/250R05L0R8AV4T/712-1602-1-ND/6612938; Device Package: 0201 (0603 Metric); Features: High Q, Low Loss; LastUpdated: 9/2/2020 1:00:15 AM; Lifecycle Status: Active; Minimum Order: 1; Mounting Type: Surface Mount, MLCC; Operating Temperature: -55°C ~ 125°C; Package / Case: 0201 (0603 Metric); Packaging: TapeAndReel; PartId: 53; Part Status: Active; Price: 0.04; Series: L; Size / Dimension: 0.024" L x 0.012" W (0.60mm x 0.30mm); Supplier 1: DigiKey; Supplier Part Number 1: 712-1602-1-ND; Thickness (Max): 0.013" (0.33mm); Voltage - Rated: 25V
footprint CAP 0201_0603
pins: 1, 2

## 250R05L0R8BV4T
designator C?, comment 0.8pF
CAP CER 0.8PF 25V C0G/NP0 0201; Part Number: 250R05L0R8BV4T; Manufacturer: Johanson Technology Inc.; Temperature Coefficient: C0G, NP0; Tolerance: ±0.1pF; Value: 0.8pF; Applications: RF, Microwave, High Frequency; Capacitance: 0.8pF; ComponentLink1Description: Datasheet; ComponentLink1URL: https://www.johansontechnology.com/downloads/catalog/johanson-technology-multi-layer-high-q-capacitors.pdf; ComponentLink2Description: DigiKey Link; ComponentLink2URL: http://digikey.com/product-detail/en/johanson-technology-inc/250R05L0R8BV4T/712-1179-1-ND/1786641; Device Package: 0201 (0603 Metric); Features: High Q, Low Loss; LastUpdated: 9/2/2020 12:59:08 AM; Lifecycle Status: Active; Minimum Order: 1; Mounting Type: Surface Mount, MLCC; Operating Temperature: -55°C ~ 125°C; Package / Case: 0201 (0603 Metric); Packaging: TapeAndReel; PartId: 832; Part Status: Active; Price: 0.03; Series: L; Size / Dimension: 0.024" L x 0.012" W (0.60mm x 0.30mm); Supplier 1: DigiKey; Supplier Part Number 1: 712-1179-1-ND; Thickness (Max): 0.013" (0.33mm); Voltage - Rated: 25V
footprint CAP 0201_0603
pins: 1, 2

## 250R05L0R9BV4T
designator C?, comment 0.9pF
CAP CER 0.9PF 25V C0G/NP0 0201; Part Number: 250R05L0R9BV4T; Manufacturer: Johanson Technology Inc.; Temperature Coefficient: C0G, NP0; Tolerance: ±0.1pF; Value: 0.9pF; Applications: RF, Microwave, High Frequency; Capacitance: 0.9pF; ComponentLink1Description: Datasheet; ComponentLink1URL: https://www.johansontechnology.com/downloads/catalog/johanson-technology-multi-layer-high-q-capacitors.pdf; ComponentLink2Description: DigiKey Link; ComponentLink2URL: http://digikey.com/product-detail/en/johanson-technology-inc/250R05L0R9BV4T/712-1180-1-ND/1786642; Device Package: 0201 (0603 Metric); Features: High Q, Low Loss; LastUpdated: 9/2/2020 12:58:02 AM; Lifecycle Status: Active; Minimum Order: 1; Mounting Type: Surface Mount, MLCC; Operating Temperature: -55°C ~ 125°C; Package / Case: 0201 (0603 Metric); Packaging: TapeAndReel; PartId: 1585; Part Status: Active; Price: 0.02; Series: L; Size / Dimension: 0.024" L x 0.012" W (0.60mm x 0.30mm); Supplier 1: DigiKey; Supplier Part Number 1: 712-1180-1-ND; Thickness (Max): 0.013" (0.33mm); Voltage - Rated: 25V
footprint CAP 0201_0603
pins: 1, 2

## 250R05L1R0BV4T
designator C?, comment 1pF
CAP CER 1PF 25V C0G/NP0 0201; Part Number: 250R05L1R0BV4T; Manufacturer: Johanson Technology Inc.; Temperature Coefficient: C0G, NP0; Tolerance: ±0.1pF; Value: 1pF; Applications: RF, Microwave, High Frequency; Capacitance: 1pF; ComponentLink1Description: Datasheet; ComponentLink1URL: https://www.johansontechnology.com/downloads/catalog/johanson-technology-multi-layer-high-q-capacitors.pdf; ComponentLink2Description: DigiKey Link; ComponentLink2URL: http://digikey.com/product-detail/en/johanson-technology-inc/250R05L1R0BV4T/712-1181-1-ND/1786643; Device Package: 0201 (0603 Metric); Features: High Q, Low Loss; LastUpdated: 9/2/2020 12:58:30 AM; Lifecycle Status: Active; Minimum Order: 1; Mounting Type: Surface Mount, MLCC; Operating Temperature: -55°C ~ 125°C; Package / Case: 0201 (0603 Metric); Packaging: TapeAndReel; PartId: 1276; Part Status: Active; Price: 0.03; Series: L; Size / Dimension: 0.024" L x 0.012" W (0.60mm x 0.30mm); Supplier 1: DigiKey; Supplier Part Number 1: 712-1181-1-ND; Thickness (Max): 0.013" (0.33mm); Voltage - Rated: 25V
footprint CAP 0201_0603
pins: 1, 2

## 250R05L1R1BV4T
designator C?, comment 1.1pF
CAP CER 1.1PF 25V C0G/NP0 0201; Part Number: 250R05L1R1BV4T; Manufacturer: Johanson Technology Inc.; Temperature Coefficient: C0G, NP0; Tolerance: ±0.1pF; Value: 1.1pF; Applications: RF, Microwave, High Frequency; Capacitance: 1.1pF; ComponentLink1Description: Datasheet; ComponentLink1URL: https://www.johansontechnology.com/downloads/catalog/johanson-technology-multi-layer-high-q-capacitors.pdf; ComponentLink2Description: DigiKey Link; ComponentLink2URL: http://digikey.com/product-detail/en/johanson-technology-inc/250R05L1R1BV4T/712-1182-1-ND/1786644; Device Package: 0201 (0603 Metric); Features: High Q, Low Loss; LastUpdated: 9/2/2020 12:58:01 AM; Lifecycle Status: Active; Minimum Order: 1; Mounting Type: Surface Mount, MLCC; Operating Temperature: -55°C ~ 125°C; Package / Case: 0201 (0603 Metric); Packaging: TapeAndReel; PartId: 1586; Part Status: Active; Price: 0.02; Series: L; Size / Dimension: 0.024" L x 0.012" W (0.60mm x 0.30mm); Supplier 1: DigiKey; Supplier Part Number 1: 712-1182-1-ND; Thickness (Max): 0.013" (0.33mm); Voltage - Rated: 25V
footprint CAP 0201_0603
pins: 1, 2

## 250R05L1R2BV4T
designator C?, comment 1.2pF
CAP CER 1.2PF 25V C0G/NP0 0201; Part Number: 250R05L1R2BV4T; Manufacturer: Johanson Technology Inc.; Temperature Coefficient: C0G, NP0; Tolerance: ±0.1pF; Value: 1.2pF; Applications: RF, Microwave, High Frequency; Capacitance: 1.2pF; ComponentLink1Description: Datasheet; ComponentLink1URL: https://www.johansontechnology.com/downloads/catalog/johanson-technology-multi-layer-high-q-capacitors.pdf; ComponentLink2Description: DigiKey Link; ComponentLink2URL: http://digikey.com/product-detail/en/johanson-technology-inc/250R05L1R2BV4T/712-1183-1-ND/1786645; Device Package: 0201 (0603 Metric); Features: High Q, Low Loss; LastUpdated: 9/2/2020 12:58:24 AM; Lifecycle Status: Active; Minimum Order: 1; Mounting Type: Surface Mount, MLCC; Operating Temperature: -55°C ~ 125°C; Package / Case: 0201 (0603 Metric); Packaging: TapeAndReel; PartId: 1345; Part Status: Active; Price: 0.03; Series: L; Size / Dimension: 0.024" L x 0.012" W (0.60mm x 0.30mm); Supplier 1: DigiKey; Supplier Part Number 1: 712-1183-1-ND; Thickness (Max): 0.013" (0.33mm); Voltage - Rated: 25V
footprint CAP 0201_0603
pins: 1, 2

## 250R05L1R3BV4T
designator C?, comment 1.3pF
CAP CER 1.3PF 25V C0G/NP0 0201; Part Number: 250R05L1R3BV4T; Manufacturer: Johanson Technology Inc.; Temperature Coefficient: C0G, NP0; Tolerance: ±0.1pF; Value: 1.3pF; Applications: RF, Microwave, High Frequency; Capacitance: 1.3pF; ComponentLink1Description: Datasheet; ComponentLink1URL: https://www.johansontechnology.com/downloads/catalog/johanson-technology-multi-layer-high-q-capacitors.pdf; ComponentLink2Description: DigiKey Link; ComponentLink2URL: http://digikey.com/product-detail/en/johanson-technology-inc/250R05L1R3BV4T/712-1184-1-ND/1786646; Device Package: 0201 (0603 Metric); Features: High Q, Low Loss; LastUpdated: 9/2/2020 12:58:01 AM; Lifecycle Status: Active; Minimum Order: 1; Mounting Type: Surface Mount, MLCC; Operating Temperature: -55°C ~ 125°C; Package / Case: 0201 (0603 Metric); Packaging: TapeAndReel; PartId: 1590; Part Status: Active; Price: 0.03; Series: L; Size / Dimension: 0.024" L x 0.012" W (0.60mm x 0.30mm); Supplier 1: DigiKey; Supplier Part Number 1: 712-1184-1-ND; Thickness (Max): 0.013" (0.33mm); Voltage - Rated: 25V
footprint CAP 0201_0603
pins: 1, 2

## 250R05L1R5BV4T
designator C?, comment 1.5pF
CAP CER 1.5PF 25V C0G/NP0 0201; Part Number: 250R05L1R5BV4T; Manufacturer: Johanson Technology Inc.; Temperature Coefficient: C0G, NP0; Tolerance: ±0.1pF; Value: 1.5pF; Applications: RF, Microwave, High Frequency; Capacitance: 1.5pF; ComponentLink1Description: Datasheet; ComponentLink1URL: https://www.johansontechnology.com/downloads/catalog/johanson-technology-multi-layer-high-q-capacitors.pdf; ComponentLink2Description: DigiKey Link; ComponentLink2URL: http://digikey.com/product-detail/en/johanson-technology-inc/250R05L1R5BV4T/712-1185-1-ND/1786647; Device Package: 0201 (0603 Metric); Features: High Q, Low Loss; LastUpdated: 9/2/2020 12:58:30 AM; Lifecycle Status: Active; Minimum Order: 1; Mounting Type: Surface Mount, MLCC; Operating Temperature: -55°C ~ 125°C; Package / Case: 0201 (0603 Metric); Packaging: TapeAndReel; PartId: 1277; Part Status: Active; Price: 0.03; Series: L; Size / Dimension: 0.024" L x 0.012" W (0.60mm x 0.30mm); Supplier 1: DigiKey; Supplier Part Number 1: 712-1185-1-ND; Thickness (Max): 0.013" (0.33mm); Voltage - Rated: 25V
footprint CAP 0201_0603
pins: 1, 2

## 250R05L1R8BV4T
designator C?, comment 1.8pF
CAP CER 1.8PF 25V C0G/NP0 0201; Part Number: 250R05L1R8BV4T; Manufacturer: Johanson Technology Inc.; Temperature Coefficient: C0G, NP0; Tolerance: ±0.1pF; Value: 1.8pF; Applications: RF, Microwave, High Frequency; Capacitance: 1.8pF; ComponentLink1Description: Datasheet; ComponentLink1URL: https://www.johansontechnology.com/downloads/catalog/johanson-technology-multi-layer-high-q-capacitors.pdf; ComponentLink2Description: DigiKey Link; ComponentLink2URL: http://digikey.com/product-detail/en/johanson-technology-inc/250R05L1R8BV4T/712-1186-1-ND/1786648; Device Package: 0201 (0603 Metric); Features: High Q, Low Loss; LastUpdated: 9/2/2020 12:58:24 AM; Lifecycle Status: Active; Minimum Order: 1; Mounting Type: Surface Mount, MLCC; Operating Temperature: -55°C ~ 125°C; Package / Case: 0201 (0603 Metric); Packaging: TapeAndReel; PartId: 1346; Part Status: Active; Price: 0.03; Series: L; Size / Dimension: 0.024" L x 0.012" W (0.60mm x 0.30mm); Supplier 1: DigiKey; Supplier Part Number 1: 712-1186-1-ND; Thickness (Max): 0.013" (0.33mm); Voltage - Rated: 25V
footprint CAP 0201_0603
pins: 1, 2

## 250R05L2R0BV4T
designator C?, comment 2pF
CAP CER 2PF 25V C0G/NP0 0201; Part Number: 250R05L2R0BV4T; Manufacturer: Johanson Technology Inc.; Temperature Coefficient: C0G, NP0; Tolerance: ±0.1pF; Value: 2pF; Applications: RF, Microwave, High Frequency; Capacitance: 2pF; ComponentLink1Description: Datasheet; ComponentLink1URL: https://www.johansontechnology.com/downloads/catalog/johanson-technology-multi-layer-high-q-capacitors.pdf; ComponentLink2Description: DigiKey Link; ComponentLink2URL: http://digikey.com/product-detail/en/johanson-technology-inc/250R05L2R0BV4T/712-1187-1-ND/1786649; Device Package: 0201 (0603 Metric); Features: High Q, Low Loss; LastUpdated: 9/2/2020 12:57:58 AM; Lifecycle Status: Active; Minimum Order: 1; Mounting Type: Surface Mount, MLCC; Operating Temperature: -55°C ~ 125°C; Package / Case: 0201 (0603 Metric); Packaging: TapeAndReel; PartId: 1627; Part Status: Active; Price: 0.04; Series: L; Size / Dimension: 0.024" L x 0.012" W (0.60mm x 0.30mm); Supplier 1: DigiKey; Supplier Part Number 1: 712-1187-1-ND; Thickness (Max): 0.013" (0.33mm); Voltage - Rated: 25V
footprint CAP 0201_0603
pins: 1, 2